# EAGLE library part ISM43340 (library RoboJackets-RF)
RX TXRX MODULE WIFI U.FL SMD Datasheet <https://www.inventeksys.com/wp-content/uploads/ISM4334x_M4G_L44_Functional_Spec.pdf>
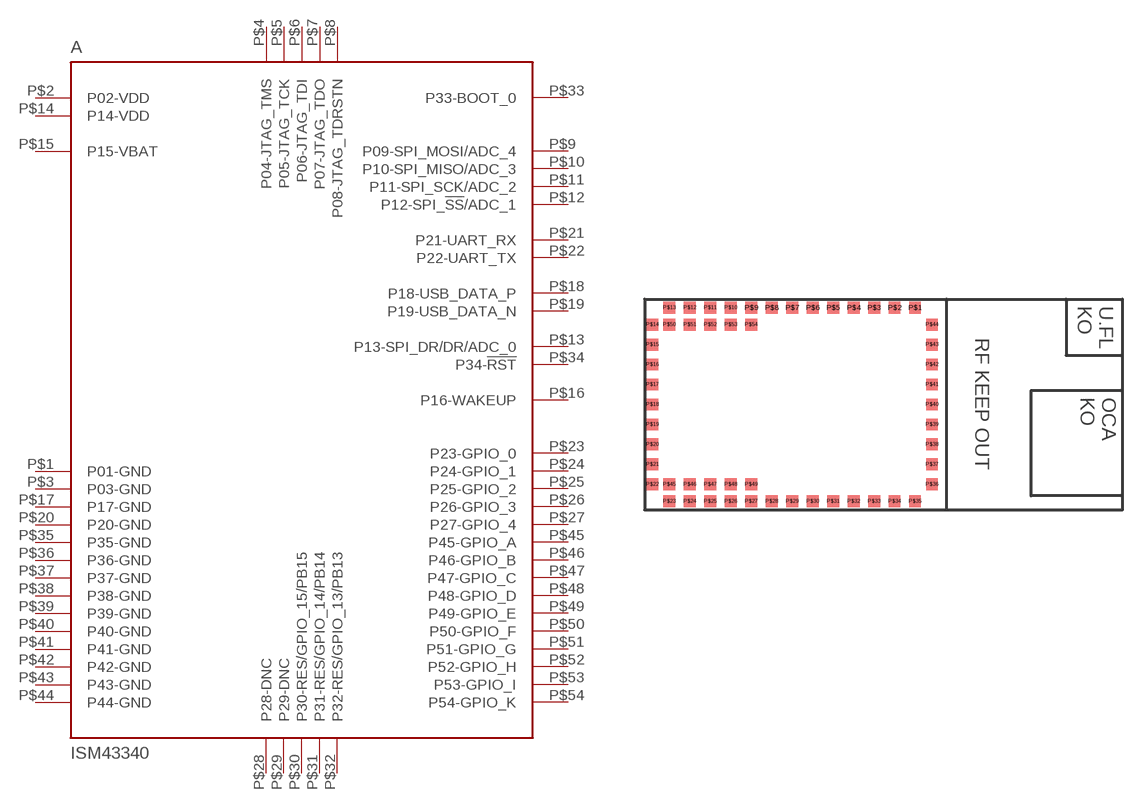
[diagram p3: symbol with the pads of ISM43340; footprint ISM43340]

Designator prefix A

## ISM43340 (DKPN: 1475-1050-ND)  [ISM43340]
P$1  P01-GND  pas
P$2  P02-VDD  pas
P$3  P03-GND  pas
P$4  P04-JTAG_TMS  pas
P$5  P05-JTAG_TCK  pas
P$6  P06-JTAG_TDI  pas
P$7  P07-JTAG_TDO  pas
P$8  P08-JTAG_TDRSTN  pas
P$9  P09-SPI_MOSI/ADC_4  pas
P$10  P10-SPI_MISO/ADC_3  pas
P$11  P11-SPI_SCK/ADC_2  pas
P$12  P12-SPI_!SS!/ADC_1  pas
P$13  P13-SPI_DR/DR/ADC_0  pas
P$14  P14-VDD  pas
P$15  P15-VBAT  pas
P$16  P16-WAKEUP  pas
P$17  P17-GND  pas
P$18  P18-USB_DATA_P  pas
P$19  P19-USB_DATA_N  pas
P$20  P20-GND  pas
P$21  P21-UART_RX  pas
P$22  P22-UART_TX  pas
P$23  P23-GPIO_0  pas
P$24  P24-GPIO_1  pas
P$25  P25-GPIO_2  pas
P$26  P26-GPIO_3  pas
P$27  P27-GPIO_4  pas
P$28  P28-DNC  pas
P$29  P29-DNC  pas
P$30  P30-RES/GPIO_15/PB15  pas
P$31  P31-RES/GPIO_14/PB14  pas
P$32  P32-RES/GPIO_13/PB13  pas
P$33  P33-BOOT_0  pas
P$34  P34-!RST!  pas
P$35  P35-GND  pas
P$36  P36-GND  pas
P$37  P37-GND  pas
P$38  P38-GND  pas
P$39  P39-GND  pas
P$40  P40-GND  pas
P$41  P41-GND  pas
P$42  P42-GND  pas
P$43  P43-GND  pas
P$44  P44-GND  pas
P$45  P45-GPIO_A  pas
P$46  P46-GPIO_B  pas
P$47  P47-GPIO_C  pas
P$48  P48-GPIO_D  pas
P$49  P49-GPIO_E  pas
P$50  P50-GPIO_F  pas
P$51  P51-GPIO_G  pas
P$52  P52-GPIO_H  pas
P$53  P53-GPIO_I  pas
P$54  P54-GPIO_K  pas

## Footprint ISM43340 (pad centres in mm)
smd 0.847 x 0.847: P$1 8.742,6.89; P$2 7.285,6.89; P$3 5.828,6.89; P$4 4.371,6.89; P$5 2.914,6.89; P$6 1.457,6.89; P$7 0,6.89; P$8 -1.457,6.89; P$9 -2.914,6.89; P$10 -4.371,6.89; P$11 -5.828,6.89; P$12 -7.285,6.89; P$13 -8.742,6.89; P$14 -9.948,5.684; P$15 -9.948,4.263; P$16 -9.948,2.842; P$17 -9.948,1.421; P$18 -9.948,0; P$19 -9.948,-1.421; P$20 -9.948,-2.842; P$21 -9.948,-4.263; P$22 -9.948,-5.684; P$23 -8.742,-6.89; P$24 -7.285,-6.89; P$25 -5.828,-6.89; P$26 -4.371,-6.89; P$27 -2.914,-6.89; P$28 -1.457,-6.89; P$29 0,-6.89; P$30 1.457,-6.89; P$31 2.914,-6.89; P$32 4.371,-6.89; P$33 5.828,-6.89; P$34 7.285,-6.89; P$35 8.742,-6.89; P$36 9.948,-5.684; P$37 9.948,-4.263; P$38 9.948,-2.842; P$39 9.948,-1.421; P$40 9.948,0; P$41 9.948,1.421; P$42 9.948,2.842; P$43 9.948,4.263; P$44 9.948,5.684; P$45 -8.742,-5.684; P$46 -7.285,-5.684; P$47 -5.828,-5.684; P$48 -4.371,-5.684; P$49 -2.914,-5.684; P$50 -8.742,5.684; P$51 -7.285,5.684; P$52 -5.828,5.684; P$53 -4.371,5.684; P$54 -2.914,5.684